# Altium integrated library Wurth_Elektronik_Passive_rev16a.IntLib: 1143 symbols (part 9 of 28)
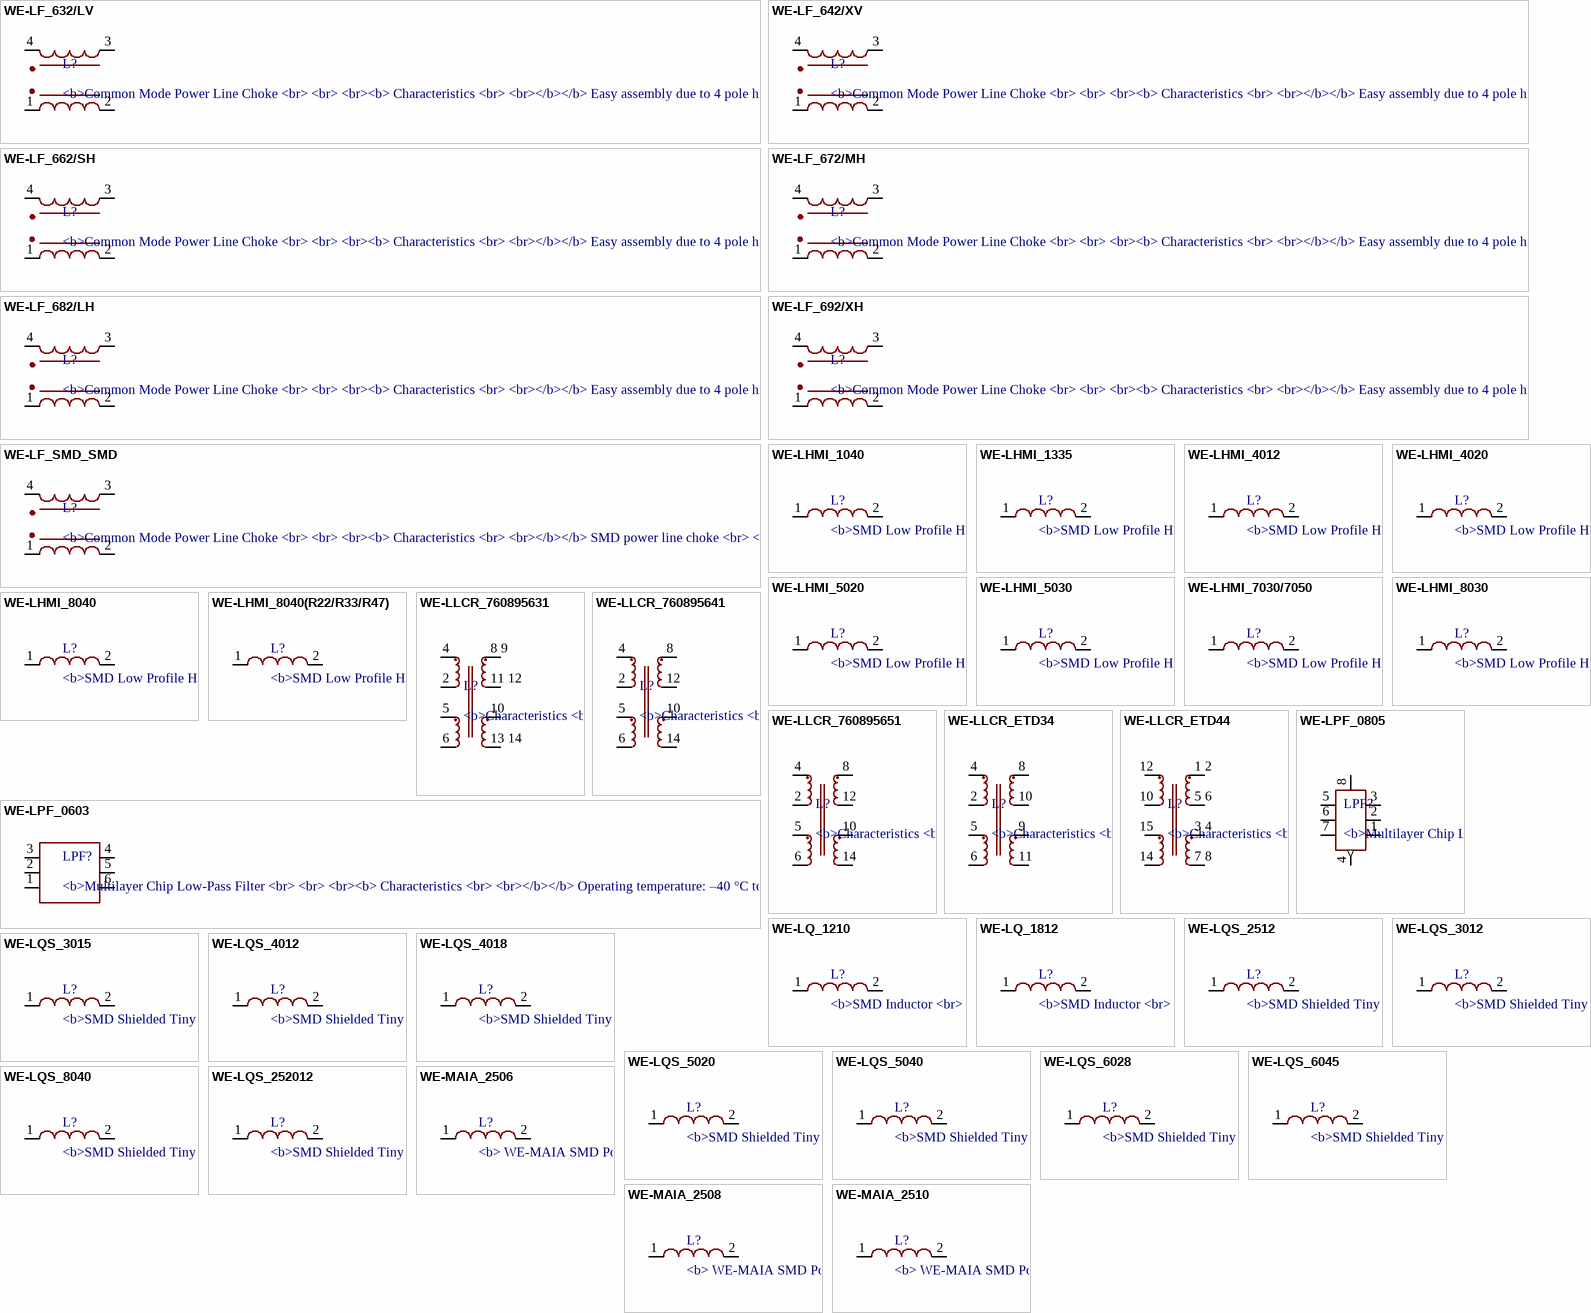
[diagram p66: symbols WE-LF_632/LV to WE-MAIA_2510]

## WE-LQS_6045
designator L?, comment <b>SMD Shielded Tiny Power Inductor / <br> / <br> / <br><b> Characteristics / <br> / <br></b></b> Tiny Power Inductor design / <br> / <br> 1.7 times more current in comparison with unshielded versions / <br> / <br> Robust design & high durability / <br> / <br> Low RDC / <br> / <br> Magnetically shielded with magnetic glue reducing buzz noise in ultra-low levels / <br> / <br> Operating Temperature: –40 °C to +125 °C / <br> / <br> / <br><b> Applications / <br> / <br></b> Integrated DC/DC Converters / <br> / <br> Switching controllers which required high efficiency / <br> / <br> Portable power (Smartphones, digital cameras, Tablets, etc.) / <br> / <br> Embedded laptops and PCs / <br> / <br> Big sizes (5040, 60xx, 8040) used for shock-proof circuits / <br> / <br> / <br> / <br><a href="http://katalog.we-online.de/media/images/eisos/IndLQS_pf2.jpg" title="Enlarge picture"> / <img src="http://katalog.we-online.de/media/thumbs2/eisos/thb_IndLQS_pf2.jpg" width="320"></a><p> / Details see: <a href="http://katalog.we-online.de/en/pbs/WE-LQS">http://katalog.we-online.de/en/pbs/WE-LQS</a><p> / Created  by  Dan Xu 2014-05-21<br> / 2014 (C) Wurth Elektronik
footprint WE-LQS_6045
pins: 1, 2

## WE-LQS_8040
designator L?, comment <b>SMD Shielded Tiny Power Inductor / <br> / <br> / <br><b> Characteristics / <br> / <br></b></b> Tiny Power Inductor design / <br> / <br> 1.7 times more current in comparison with unshielded versions / <br> / <br> Robust design & high durability / <br> / <br> Low RDC / <br> / <br> Magnetically shielded with magnetic glue reducing buzz noise in ultra-low levels / <br> / <br> Operating Temperature: –40 °C to +125 °C / <br> / <br> / <br><b> Applications / <br> / <br></b> Integrated DC/DC Converters / <br> / <br> Switching controllers which required high efficiency / <br> / <br> Portable power (Smartphones, digital cameras, Tablets, etc.) / <br> / <br> Embedded laptops and PCs / <br> / <br> Big sizes (5040, 60xx, 8040) used for shock-proof circuits / <br> / <br> / <br> / <br><a href="http://katalog.we-online.de/media/images/eisos/IndLQS_pf2.jpg" title="Enlarge picture"> / <img src="http://katalog.we-online.de/media/thumbs2/eisos/thb_IndLQS_pf2.jpg" width="320"></a><p> / Details see: <a href="http://katalog.we-online.de/en/pbs/WE-LQS">http://katalog.we-online.de/en/pbs/WE-LQS</a><p> / Created  by  Dan Xu 2014-05-21<br> / 2014 (C) Wurth Elektronik
footprint WE-LQS_8040
pins: 1, 2

## WE-LQS_252012
designator L?, comment <b>SMD Shielded Tiny Power Inductor / <br> / <br> / <br><b> Characteristics / <br> / <br></b></b> Tiny Power Inductor design / <br> / <br> 1.7 times more current in comparison with unshielded versions / <br> / <br> Robust design & high durability / <br> / <br> Low RDC / <br> / <br> Magnetically shielded with magnetic glue reducing buzz noise in ultra-low levels / <br> / <br> Operating Temperature: –40 °C to +125 °C / <br> / <br> / <br><b> Applications / <br> / <br></b> Integrated DC/DC Converters / <br> / <br> Switching controllers which required high efficiency / <br> / <br> Portable power (Smartphones, digital cameras, Tablets, etc.) / <br> / <br> Embedded laptops and PCs / <br> / <br> Big sizes (5040, 60xx, 8040) used for shock-proof circuits / <br> / <br> / <br> / <br><a href="http://katalog.we-online.de/media/images/eisos/IndLQS_pf2.jpg" title="Enlarge picture"> / <img src="http://katalog.we-online.de/media/thumbs2/eisos/thb_IndLQS_pf2.jpg" width="320"></a><p> / Details see: <a href="http://katalog.we-online.de/en/pbs/WE-LQS">http://katalog.we-online.de/en/pbs/WE-LQS</a><p> / Created  by  Dan Xu 2014-05-21<br> / 2014 (C) Wurth Elektronik
footprint WE-LQS_252012
pins: 1, 2

## WE-MAIA_2506
designator L?, comment <b> WE-MAIA SMD Power Inductor / <br> / <br><b>Characteristics</B> / </b><br>Magnetic iron alloy allows high rated currents / <br>Compact design / <br>Magnetically shielded / <br>Hight current capability and handles hight transient current spikes / <br>No acoustic noise and no leakage flux noise / <br>Operating temperature range:-40°C up to 125°C / <br> / <br><b>Applications / </b><br>Power supplies for smartphones, tablet PCs and other mobile devices / <br>DC/DC-converter for high current power supplies / <br>DC/DC-converter for Field Programmable Gate Array (FPGA) / <br>POL-converters / <br>Portable power like PDA, digital camera / <br>Mainboards/graphic cards / <br>Battery powered devices / <br>Wireless communication devices / <br> / <br><a href="http://katalog.we-online.de/media/images/eisos/IndMAIA_pf2.jpg" title="Enlarge picture"> / <img src="http://katalog.we-online.de/media/thumbs2/eisos/thb_IndMAIA_pf2.jpg" width="320"></a><p> / Details see: <a href="http://katalog.we-online.de/en/pbs/WE-MAIA/">http://katalog.we-online.de/en/pbs/WE-MAIA/ / </a><p>Created: 2015-02-04 / <br>2015 (C) Wurth Elektronik
footprint WE-MAIA_2506
pins: 1, 2

## WE-MAIA_2508
designator L?, comment <b> WE-MAIA SMD Power Inductor / <br> / <br><b>Characteristics</B> / </b><br>Magnetic iron alloy allows high rated currents / <br>Compact design / <br>Magnetically shielded / <br>Hight current capability and handles hight transient current spikes / <br>No acoustic noise and no leakage flux noise / <br>Operating temperature range:-40°C up to 125°C / <br> / <br><b>Applications / </b><br>Power supplies for smartphones, tablet PCs and other mobile devices / <br>DC/DC-converter for high current power supplies / <br>DC/DC-converter for Field Programmable Gate Array (FPGA) / <br>POL-converters / <br>Portable power like PDA, digital camera / <br>Mainboards/graphic cards / <br>Battery powered devices / <br>Wireless communication devices / <br> / <br><a href="http://katalog.we-online.de/media/images/eisos/IndMAIA_pf2.jpg" title="Enlarge picture"> / <img src="http://katalog.we-online.de/media/thumbs2/eisos/thb_IndMAIA_pf2.jpg" width="320"></a><p> / Details see: <a href="http://katalog.we-online.de/en/pbs/WE-MAIA/">http://katalog.we-online.de/en/pbs/WE-MAIA/ / </a><p>Created: 2015-02-04 / <br>2015 (C) Wurth Elektronik
footprint WE-MAIA_2508
pins: 1, 2

## WE-MAIA_2510
designator L?, comment <b> WE-MAIA SMD Power Inductor / <br> / <br><b>Characteristics</B> / </b><br>Magnetic iron alloy allows high rated currents / <br>Compact design / <br>Magnetically shielded / <br>Hight current capability and handles hight transient current spikes / <br>No acoustic noise and no leakage flux noise / <br>Operating temperature range:-40°C up to 125°C / <br> / <br><b>Applications / </b><br>Power supplies for smartphones, tablet PCs and other mobile devices / <br>DC/DC-converter for high current power supplies / <br>DC/DC-converter for Field Programmable Gate Array (FPGA) / <br>POL-converters / <br>Portable power like PDA, digital camera / <br>Mainboards/graphic cards / <br>Battery powered devices / <br>Wireless communication devices / <br> / <br><a href="http://katalog.we-online.de/media/images/eisos/IndMAIA_pf2.jpg" title="Enlarge picture"> / <img src="http://katalog.we-online.de/media/thumbs2/eisos/thb_IndMAIA_pf2.jpg" width="320"></a><p> / Details see: <a href="http://katalog.we-online.de/en/pbs/WE-MAIA/">http://katalog.we-online.de/en/pbs/WE-MAIA/ / </a><p>Created: 2015-02-04 / <br>2015 (C) Wurth Elektronik
footprint WE-MAIA_2510
pins: 1, 2

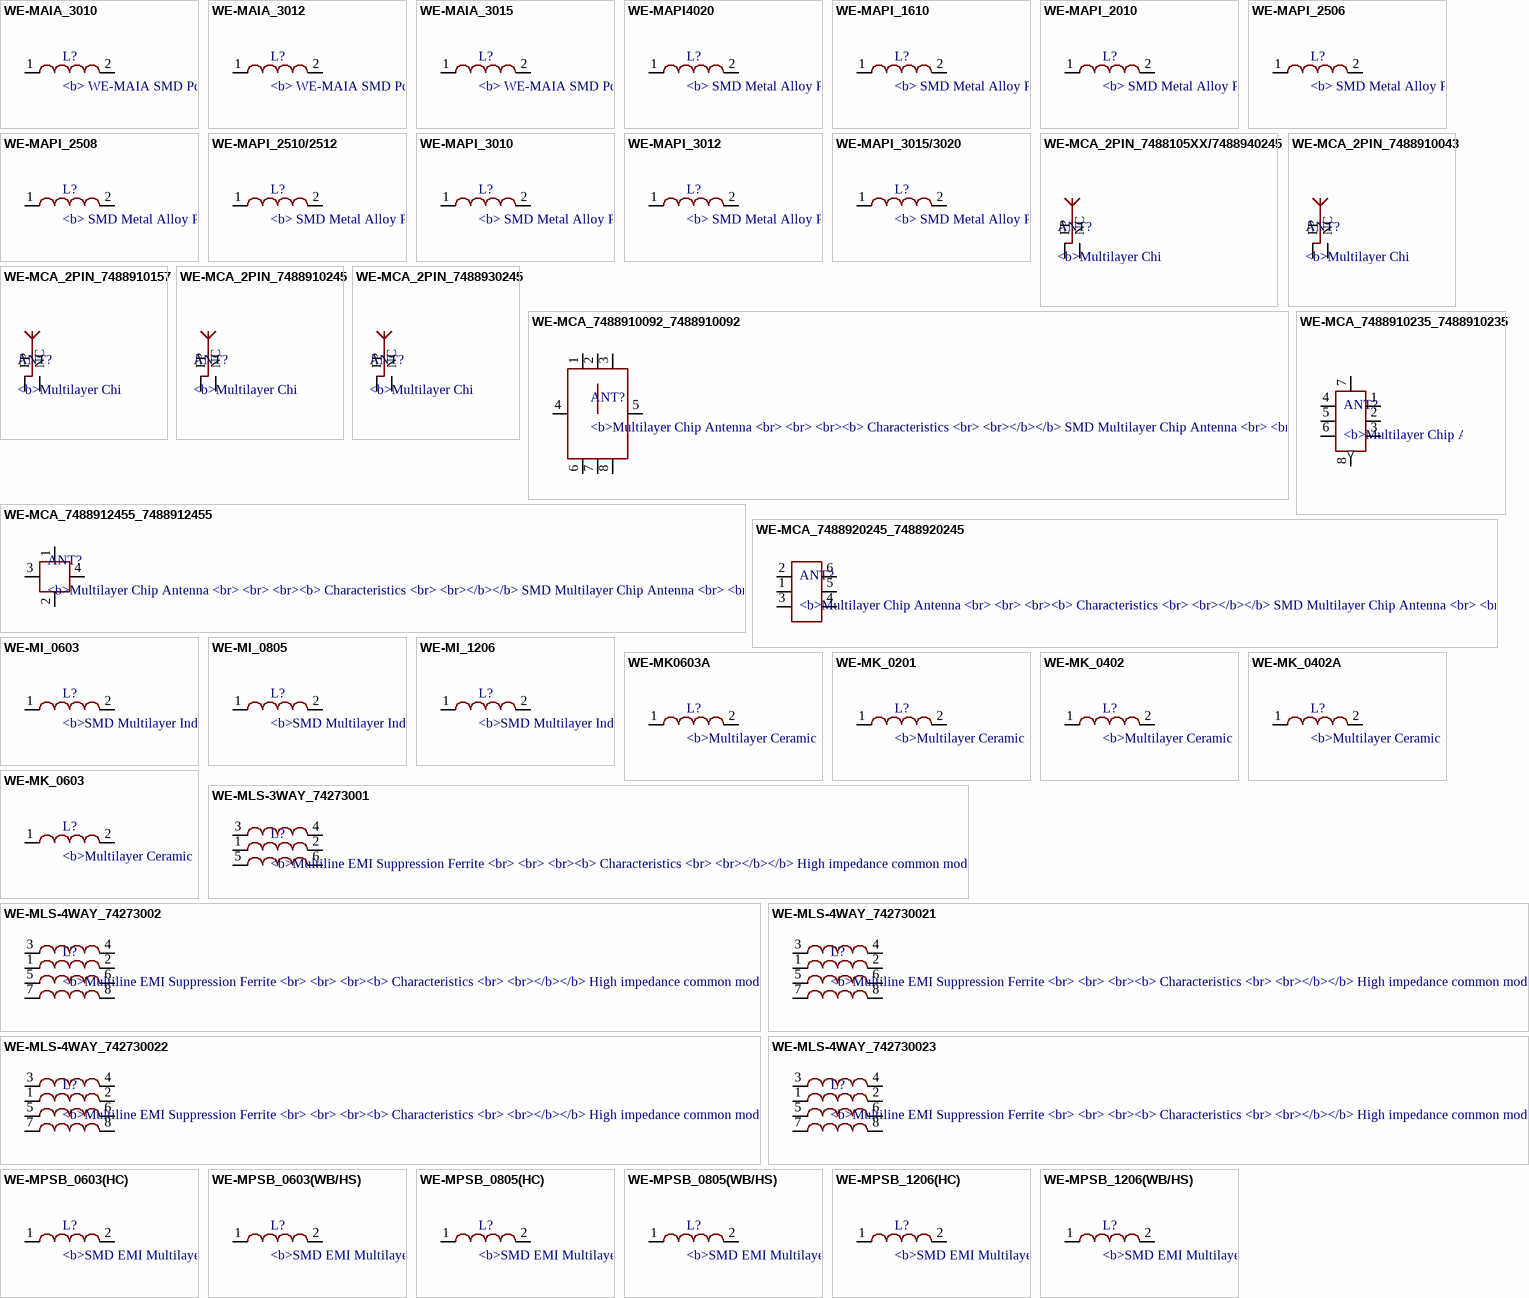
[diagram p23: symbols WE-MAIA_3010 to WE-MPSB_1206(WB/HS)]

## WE-MAIA_3010
designator L?, comment <b> WE-MAIA SMD Power Inductor / <br> / <br><b>Characteristics</B> / </b><br>Magnetic iron alloy allows high rated currents / <br>Compact design / <br>Magnetically shielded / <br>Hight current capability and handles hight transient current spikes / <br>No acoustic noise and no leakage flux noise / <br>Operating temperature range:-40°C up to 125°C / <br> / <br><b>Applications / </b><br>Power supplies for smartphones, tablet PCs and other mobile devices / <br>DC/DC-converter for high current power supplies / <br>DC/DC-converter for Field Programmable Gate Array (FPGA) / <br>POL-converters / <br>Portable power like PDA, digital camera / <br>Mainboards/graphic cards / <br>Battery powered devices / <br>Wireless communication devices / <br> / <br><a href="http://katalog.we-online.de/media/images/eisos/IndMAIA_pf2.jpg" title="Enlarge picture"> / <img src="http://katalog.we-online.de/media/thumbs2/eisos/thb_IndMAIA_pf2.jpg" width="320"></a><p> / Details see: <a href="http://katalog.we-online.de/en/pbs/WE-MAIA/">http://katalog.we-online.de/en/pbs/WE-MAIA/ / </a><p>Created: 2015-02-04 / <br>2015 (C) Wurth Elektronik
footprint WE-MAIA_3010
pins: 1, 2

## WE-MAIA_3012
designator L?, comment <b> WE-MAIA SMD Power Inductor / <br> / <br><b>Characteristics</B> / </b><br>Magnetic iron alloy allows high rated currents / <br>Compact design / <br>Magnetically shielded / <br>Hight current capability and handles hight transient current spikes / <br>No acoustic noise and no leakage flux noise / <br>Operating temperature range:-40°C up to 125°C / <br> / <br><b>Applications / </b><br>Power supplies for smartphones, tablet PCs and other mobile devices / <br>DC/DC-converter for high current power supplies / <br>DC/DC-converter for Field Programmable Gate Array (FPGA) / <br>POL-converters / <br>Portable power like PDA, digital camera / <br>Mainboards/graphic cards / <br>Battery powered devices / <br>Wireless communication devices / <br> / <br><a href="http://katalog.we-online.de/media/images/eisos/IndMAIA_pf2.jpg" title="Enlarge picture"> / <img src="http://katalog.we-online.de/media/thumbs2/eisos/thb_IndMAIA_pf2.jpg" width="320"></a><p> / Details see: <a href="http://katalog.we-online.de/en/pbs/WE-MAIA/">http://katalog.we-online.de/en/pbs/WE-MAIA/ / </a><p>Created: 2015-02-04 / <br>2015 (C) Wurth Elektronik
footprint WE-MAIA_3012
pins: 1, 2

## WE-MAIA_3015
designator L?, comment <b> WE-MAIA SMD Power Inductor / <br> / <br><b>Characteristics</B> / </b><br>Magnetic iron alloy allows high rated currents / <br>Compact design / <br>Magnetically shielded / <br>Hight current capability and handles hight transient current spikes / <br>No acoustic noise and no leakage flux noise / <br>Operating temperature range:-40°C up to 125°C / <br> / <br><b>Applications / </b><br>Power supplies for smartphones, tablet PCs and other mobile devices / <br>DC/DC-converter for high current power supplies / <br>DC/DC-converter for Field Programmable Gate Array (FPGA) / <br>POL-converters / <br>Portable power like PDA, digital camera / <br>Mainboards/graphic cards / <br>Battery powered devices / <br>Wireless communication devices / <br> / <br><a href="http://katalog.we-online.de/media/images/eisos/IndMAIA_pf2.jpg" title="Enlarge picture"> / <img src="http://katalog.we-online.de/media/thumbs2/eisos/thb_IndMAIA_pf2.jpg" width="320"></a><p> / Details see: <a href="http://katalog.we-online.de/en/pbs/WE-MAIA/">http://katalog.we-online.de/en/pbs/WE-MAIA/ / </a><p>Created: 2015-02-04 / <br>2015 (C) Wurth Elektronik
footprint WE-MAIA_3015
pins: 1, 2

## WE-MAPI4020
designator L?, comment <b> SMD Metal Alloy Power Inductor / <br> / <br> / <br><b> Characteristics / <br> / <br></b></b> Magnetic iron alloy allows high rated currents / <br> / <br> Compact design / <br> / <br> Magnetically shielded / <br> / <br> High current capability and handles high transient current spikes / <br> / <br> Low acoustic noise and low leakage flux noise / <br> / <br> Operating temperature: –40 °C to 125 °C / <br> / <br> / <br><b> Applications / <br> / <br></b> DC/DC-converter for high current power supplies / <br> / <br> DC/DC-converter for Field Programmable Gate Array (FPGA) / <br> / <br> POL-converters / <br> / <br> Portable power like PDA, digital camera / <br> / <br> Mainboards/graphic cards / <br> / <br> Battery powered devices / <br> / <br> Wireless communication devices / <br> / <br> Power supplies for smartphones, tablet PCs and other mobile devices / <br> / <br> / <br><a href="http://katalog.we-online.de/media/images/eisos/IndMAPI_pf2.jpg" title="Enlarge picture"> / <img src="http://katalog.we-online.de/media/images/eisos/IndMAPI_pf2.jpg" width="320"></a><p> / Details see: <a href="http://katalog.we-online.de/en/pbs/WE-MAPI?">http://katalog.we-online.de/en/pbs/WE-MAPI?</a><p> / Updated  by  Dan Xu 2014-07-08<br> / 2014 (C) Wurth Elektronik
footprint WE-MAPI_4020
pins: 1, 2

## WE-MAPI_1610
designator L?, comment <b> SMD Metal Alloy Power Inductor / <br> / <br> / <br><b> Characteristics / <br> / <br></b></b> Magnetic iron alloy allows high rated currents / <br> / <br> Compact design / <br> / <br> Magnetically shielded / <br> / <br> High current capability and handles high transient current spikes / <br> / <br> Low acoustic noise and low leakage flux noise / <br> / <br> Operating temperature: –40 °C to 125 °C / <br> / <br> / <br><b> Applications / <br> / <br></b> DC/DC-converter for high current power supplies / <br> / <br> DC/DC-converter for Field Programmable Gate Array (FPGA) / <br> / <br> POL-converters / <br> / <br> Portable power like PDA, digital camera / <br> / <br> Mainboards/graphic cards / <br> / <br> Battery powered devices / <br> / <br> Wireless communication devices / <br> / <br> Power supplies for smartphones, tablet PCs and other mobile devices / <br> / <br> / <br><a href="http://katalog.we-online.de/media/images/eisos/IndMAPI_pf2.jpg" title="Enlarge picture"> / <img src="http://katalog.we-online.de/media/images/eisos/IndMAPI_pf2.jpg" width="320"></a><p> / Details see: <a href="http://katalog.we-online.de/en/pbs/WE-MAPI?">http://katalog.we-online.de/en/pbs/WE-MAPI?</a><p> / Updated  by  Dan Xu 2014-07-08<br> / 2014 (C) Wurth Elektronik
footprint WE-MAPI_1610
pins: 1, 2

## WE-MAPI_2010
designator L?, comment <b> SMD Metal Alloy Power Inductor / <br> / <br> / <br><b> Characteristics / <br> / <br></b></b> Magnetic iron alloy allows high rated currents / <br> / <br> Compact design / <br> / <br> Magnetically shielded / <br> / <br> High current capability and handles high transient current spikes / <br> / <br> Low acoustic noise and low leakage flux noise / <br> / <br> Operating temperature: –40 °C to 125 °C / <br> / <br> / <br><b> Applications / <br> / <br></b> DC/DC-converter for high current power supplies / <br> / <br> DC/DC-converter for Field Programmable Gate Array (FPGA) / <br> / <br> POL-converters / <br> / <br> Portable power like PDA, digital camera / <br> / <br> Mainboards/graphic cards / <br> / <br> Battery powered devices / <br> / <br> Wireless communication devices / <br> / <br> Power supplies for smartphones, tablet PCs and other mobile devices / <br> / <br> / <br><a href="http://katalog.we-online.de/media/images/eisos/IndMAPI_pf2.jpg" title="Enlarge picture"> / <img src="http://katalog.we-online.de/media/images/eisos/IndMAPI_pf2.jpg" width="320"></a><p> / Details see: <a href="http://katalog.we-online.de/en/pbs/WE-MAPI?">http://katalog.we-online.de/en/pbs/WE-MAPI?</a><p> / Updated  by  Dan Xu 2014-07-08<br> / 2014 (C) Wurth Elektronik
footprint WE-MAPI_2010
pins: 1, 2

## WE-MAPI_2506
designator L?, comment <b> SMD Metal Alloy Power Inductor / <br> / <br> / <br><b> Characteristics / <br> / <br></b></b> Magnetic iron alloy allows high rated currents / <br> / <br> Compact design / <br> / <br> Magnetically shielded / <br> / <br> High current capability and handles high transient current spikes / <br> / <br> Low acoustic noise and low leakage flux noise / <br> / <br> Operating temperature: –40 °C to 125 °C / <br> / <br> / <br><b> Applications / <br> / <br></b> DC/DC-converter for high current power supplies / <br> / <br> DC/DC-converter for Field Programmable Gate Array (FPGA) / <br> / <br> POL-converters / <br> / <br> Portable power like PDA, digital camera / <br> / <br> Mainboards/graphic cards / <br> / <br> Battery powered devices / <br> / <br> Wireless communication devices / <br> / <br> Power supplies for smartphones, tablet PCs and other mobile devices / <br> / <br> / <br><a href="http://katalog.we-online.de/media/images/eisos/IndMAPI_pf2.jpg" title="Enlarge picture"> / <img src="http://katalog.we-online.de/media/images/eisos/IndMAPI_pf2.jpg" width="320"></a><p> / Details see: <a href="http://katalog.we-online.de/en/pbs/WE-MAPI?">http://katalog.we-online.de/en/pbs/WE-MAPI?</a><p> / Updated  by  Dan Xu 2014-07-08<br> / 2014 (C) Wurth Elektronik
footprint WE-MAPI_2506
pins: 1, 2

## WE-MAPI_2508
designator L?, comment <b> SMD Metal Alloy Power Inductor / <br> / <br> / <br><b> Characteristics / <br> / <br></b></b> Magnetic iron alloy allows high rated currents / <br> / <br> Compact design / <br> / <br> Magnetically shielded / <br> / <br> High current capability and handles high transient current spikes / <br> / <br> Low acoustic noise and low leakage flux noise / <br> / <br> Operating temperature: –40 °C to 125 °C / <br> / <br> / <br><b> Applications / <br> / <br></b> DC/DC-converter for high current power supplies / <br> / <br> DC/DC-converter for Field Programmable Gate Array (FPGA) / <br> / <br> POL-converters / <br> / <br> Portable power like PDA, digital camera / <br> / <br> Mainboards/graphic cards / <br> / <br> Battery powered devices / <br> / <br> Wireless communication devices / <br> / <br> Power supplies for smartphones, tablet PCs and other mobile devices / <br> / <br> / <br><a href="http://katalog.we-online.de/media/images/eisos/IndMAPI_pf2.jpg" title="Enlarge picture"> / <img src="http://katalog.we-online.de/media/images/eisos/IndMAPI_pf2.jpg" width="320"></a><p> / Details see: <a href="http://katalog.we-online.de/en/pbs/WE-MAPI?">http://katalog.we-online.de/en/pbs/WE-MAPI?</a><p> / Updated  by  Dan Xu 2014-07-08<br> / 2014 (C) Wurth Elektronik
footprint WE-MAPI_2508
pins: 1, 2

## WE-MAPI_2510/2512
designator L?, comment <b> SMD Metal Alloy Power Inductor / <br> / <br> / <br><b> Characteristics / <br> / <br></b></b> Magnetic iron alloy allows high rated currents / <br> / <br> Compact design / <br> / <br> Magnetically shielded / <br> / <br> High current capability and handles high transient current spikes / <br> / <br> Low acoustic noise and low leakage flux noise / <br> / <br> Operating temperature: –40 °C to 125 °C / <br> / <br> / <br><b> Applications / <br> / <br></b> DC/DC-converter for high current power supplies / <br> / <br> DC/DC-converter for Field Programmable Gate Array (FPGA) / <br> / <br> POL-converters / <br> / <br> Portable power like PDA, digital camera / <br> / <br> Mainboards/graphic cards / <br> / <br> Battery powered devices / <br> / <br> Wireless communication devices / <br> / <br> Power supplies for smartphones, tablet PCs and other mobile devices / <br> / <br> / <br><a href="http://katalog.we-online.de/media/images/eisos/IndMAPI_pf2.jpg" title="Enlarge picture"> / <img src="http://katalog.we-online.de/media/images/eisos/IndMAPI_pf2.jpg" width="320"></a><p> / Details see: <a href="http://katalog.we-online.de/en/pbs/WE-MAPI?">http://katalog.we-online.de/en/pbs/WE-MAPI?</a><p> / Updated  by  Dan Xu 2014-07-08<br> / 2014 (C) Wurth Elektronik
footprint WE-MAPI_2510/2512
pins: 1, 2

## WE-MAPI_3010
designator L?, comment <b> SMD Metal Alloy Power Inductor / <br> / <br> / <br><b> Characteristics / <br> / <br></b></b> Magnetic iron alloy allows high rated currents / <br> / <br> Compact design / <br> / <br> Magnetically shielded / <br> / <br> High current capability and handles high transient current spikes / <br> / <br> Low acoustic noise and low leakage flux noise / <br> / <br> Operating temperature: –40 °C to 125 °C / <br> / <br> / <br><b> Applications / <br> / <br></b> DC/DC-converter for high current power supplies / <br> / <br> DC/DC-converter for Field Programmable Gate Array (FPGA) / <br> / <br> POL-converters / <br> / <br> Portable power like PDA, digital camera / <br> / <br> Mainboards/graphic cards / <br> / <br> Battery powered devices / <br> / <br> Wireless communication devices / <br> / <br> Power supplies for smartphones, tablet PCs and other mobile devices / <br> / <br> / <br><a href="http://katalog.we-online.de/media/images/eisos/IndMAPI_pf2.jpg" title="Enlarge picture"> / <img src="http://katalog.we-online.de/media/images/eisos/IndMAPI_pf2.jpg" width="320"></a><p> / Details see: <a href="http://katalog.we-online.de/en/pbs/WE-MAPI?">http://katalog.we-online.de/en/pbs/WE-MAPI?</a><p> / Updated  by  Dan Xu 2014-07-08<br> / 2014 (C) Wurth Elektronik
footprint WE-MAPI_3010
pins: 1, 2

## WE-MAPI_3012
designator L?, comment <b> SMD Metal Alloy Power Inductor / <br> / <br> / <br><b> Characteristics / <br> / <br></b></b> Magnetic iron alloy allows high rated currents / <br> / <br> Compact design / <br> / <br> Magnetically shielded / <br> / <br> High current capability and handles high transient current spikes / <br> / <br> Low acoustic noise and low leakage flux noise / <br> / <br> Operating temperature: –40 °C to 125 °C / <br> / <br> / <br><b> Applications / <br> / <br></b> DC/DC-converter for high current power supplies / <br> / <br> DC/DC-converter for Field Programmable Gate Array (FPGA) / <br> / <br> POL-converters / <br> / <br> Portable power like PDA, digital camera / <br> / <br> Mainboards/graphic cards / <br> / <br> Battery powered devices / <br> / <br> Wireless communication devices / <br> / <br> Power supplies for smartphones, tablet PCs and other mobile devices / <br> / <br> / <br><a href="http://katalog.we-online.de/media/images/eisos/IndMAPI_pf2.jpg" title="Enlarge picture"> / <img src="http://katalog.we-online.de/media/images/eisos/IndMAPI_pf2.jpg" width="320"></a><p> / Details see: <a href="http://katalog.we-online.de/en/pbs/WE-MAPI?">http://katalog.we-online.de/en/pbs/WE-MAPI?</a><p> / Updated  by  Dan Xu 2014-07-08<br> / 2014 (C) Wurth Elektronik
footprint WE-MAPI_3012
pins: 1, 2

## WE-MAPI_3015/3020
designator L?, comment <b> SMD Metal Alloy Power Inductor / <br> / <br> / <br><b> Characteristics / <br> / <br></b></b> Magnetic iron alloy allows high rated currents / <br> / <br> Compact design / <br> / <br> Magnetically shielded / <br> / <br> High current capability and handles high transient current spikes / <br> / <br> Low acoustic noise and low leakage flux noise / <br> / <br> Operating temperature: –40 °C to 125 °C / <br> / <br> / <br><b> Applications / <br> / <br></b> DC/DC-converter for high current power supplies / <br> / <br> DC/DC-converter for Field Programmable Gate Array (FPGA) / <br> / <br> POL-converters / <br> / <br> Portable power like PDA, digital camera / <br> / <br> Mainboards/graphic cards / <br> / <br> Battery powered devices / <br> / <br> Wireless communication devices / <br> / <br> Power supplies for smartphones, tablet PCs and other mobile devices / <br> / <br> / <br><a href="http://katalog.we-online.de/media/images/eisos/IndMAPI_pf2.jpg" title="Enlarge picture"> / <img src="http://katalog.we-online.de/media/images/eisos/IndMAPI_pf2.jpg" width="320"></a><p> / Details see: <a href="http://katalog.we-online.de/en/pbs/WE-MAPI?">http://katalog.we-online.de/en/pbs/WE-MAPI?</a><p> / Updated  by  Dan Xu 2014-07-08<br> / 2014 (C) Wurth Elektronik
footprint WE-MAPI_3015/3020
pins: 1, 2

## WE-MCA_2PIN_7488105XX/7488940245
designator ANT?, comment <b>Multilayer Chip Antenna / <br> / <br> / <br><b> Characteristics / <br> / <br></b></b> SMD Multilayer Chip Antenna / <br> / <br> Extremely low profile / <br> / <br> Very light component / <br> / <br> Power capacity: 5 W max. / <br> / <br> Omni-directional / <br> / <br> Operating temperature: –40 °C to +85 °C / <br> / <br> High gain / <br> / <br> / <br><b> Applications / <br> / <br></b> applications / <br> / <br> WLAN / <br> / <br> Home RF (868 MHz) / <br> / <br> Bluetooth applications / <br> / <br> GSM 900 / <br> / <br> ISM 868/2400 / <br> / <br> / <br> / <br><a href="<br><a href="http://katalog.we-online.de/media/images/eisos/RfMCA_pf2.jpg" title="Enlarge picture"> / <img src="http://katalog.we-online.de/media/images/eisos/RfMCA_pf2.jpg" width="320"></a><p> / Details see: <a href="http://katalog.we-online.de/en/pbs/WE-MCA?">http://katalog.we-online.de/en/pbs/WE-MCA?</a><p> / Updated  by  Dan Xu 2014-07-08<br> / 2014 (C) Wurth Elektronik
footprint WE-MCA_7488105XX/7488940245
pins: 1 FP, 2 NC

## WE-MCA_2PIN_7488910043
designator ANT?, comment <b>Multilayer Chip Antenna / <br> / <br> / <br><b> Characteristics / <br> / <br></b></b> SMD Multilayer Chip Antenna / <br> / <br> Extremely low profile / <br> / <br> Very light component / <br> / <br> Power capacity: 5 W max. / <br> / <br> Omni-directional / <br> / <br> Operating temperature: –40 °C to +85 °C / <br> / <br> High gain / <br> / <br> / <br><b> Applications / <br> / <br></b> applications / <br> / <br> WLAN / <br> / <br> Home RF (868 MHz) / <br> / <br> Bluetooth applications / <br> / <br> GSM 900 / <br> / <br> ISM 868/2400 / <br> / <br> / <br> / <br><a href="<br><a href="http://katalog.we-online.de/media/images/eisos/RfMCA_pf2.jpg" title="Enlarge picture"> / <img src="http://katalog.we-online.de/media/images/eisos/RfMCA_pf2.jpg" width="320"></a><p> / Details see: <a href="http://katalog.we-online.de/en/pbs/WE-MCA?">http://katalog.we-online.de/en/pbs/WE-MCA?</a><p> / Updated  by  Dan Xu 2014-07-08<br> / 2014 (C) Wurth Elektronik
footprint WE-MCA_7488910043
pins: 1 FP, 2 NC

## WE-MCA_2PIN_7488910157
designator ANT?, comment <b>Multilayer Chip Antenna / <br> / <br> / <br><b> Characteristics / <br> / <br></b></b> SMD Multilayer Chip Antenna / <br> / <br> Extremely low profile / <br> / <br> Very light component / <br> / <br> Power capacity: 5 W max. / <br> / <br> Omni-directional / <br> / <br> Operating temperature: –40 °C to +85 °C / <br> / <br> High gain / <br> / <br> / <br><b> Applications / <br> / <br></b> applications / <br> / <br> WLAN / <br> / <br> Home RF (868 MHz) / <br> / <br> Bluetooth applications / <br> / <br> GSM 900 / <br> / <br> ISM 868/2400 / <br> / <br> / <br> / <br><a href="<br><a href="http://katalog.we-online.de/media/images/eisos/RfMCA_pf2.jpg" title="Enlarge picture"> / <img src="http://katalog.we-online.de/media/images/eisos/RfMCA_pf2.jpg" width="320"></a><p> / Details see: <a href="http://katalog.we-online.de/en/pbs/WE-MCA?">http://katalog.we-online.de/en/pbs/WE-MCA?</a><p> / Updated  by  Dan Xu 2014-07-08<br> / 2014 (C) Wurth Elektronik
footprint WE-MCA_7488910157
pins: 1 FP, 2 NC

## WE-MCA_2PIN_7488910245
designator ANT?, comment <b>Multilayer Chip Antenna / <br> / <br> / <br><b> Characteristics / <br> / <br></b></b> SMD Multilayer Chip Antenna / <br> / <br> Extremely low profile / <br> / <br> Very light component / <br> / <br> Power capacity: 5 W max. / <br> / <br> Omni-directional / <br> / <br> Operating temperature: –40 °C to +85 °C / <br> / <br> High gain / <br> / <br> / <br><b> Applications / <br> / <br></b> applications / <br> / <br> WLAN / <br> / <br> Home RF (868 MHz) / <br> / <br> Bluetooth applications / <br> / <br> GSM 900 / <br> / <br> ISM 868/2400 / <br> / <br> / <br> / <br><a href="<br><a href="http://katalog.we-online.de/media/images/eisos/RfMCA_pf2.jpg" title="Enlarge picture"> / <img src="http://katalog.we-online.de/media/images/eisos/RfMCA_pf2.jpg" width="320"></a><p> / Details see: <a href="http://katalog.we-online.de/en/pbs/WE-MCA?">http://katalog.we-online.de/en/pbs/WE-MCA?</a><p> / Updated  by  Dan Xu 2014-07-08<br> / 2014 (C) Wurth Elektronik
footprint WE-MCA_7488910245
pins: 1 NC, 2 FP

## WE-MCA_2PIN_7488930245
designator ANT?, comment <b>Multilayer Chip Antenna / <br> / <br> / <br><b> Characteristics / <br> / <br></b></b> SMD Multilayer Chip Antenna / <br> / <br> Extremely low profile / <br> / <br> Very light component / <br> / <br> Power capacity: 5 W max. / <br> / <br> Omni-directional / <br> / <br> Operating temperature: –40 °C to +85 °C / <br> / <br> High gain / <br> / <br> / <br><b> Applications / <br> / <br></b> applications / <br> / <br> WLAN / <br> / <br> Home RF (868 MHz) / <br> / <br> Bluetooth applications / <br> / <br> GSM 900 / <br> / <br> ISM 868/2400 / <br> / <br> / <br> / <br><a href="<br><a href="http://katalog.we-online.de/media/images/eisos/RfMCA_pf2.jpg" title="Enlarge picture"> / <img src="http://katalog.we-online.de/media/images/eisos/RfMCA_pf2.jpg" width="320"></a><p> / Details see: <a href="http://katalog.we-online.de/en/pbs/WE-MCA?">http://katalog.we-online.de/en/pbs/WE-MCA?</a><p> / Updated  by  Dan Xu 2014-07-08<br> / 2014 (C) Wurth Elektronik
footprint WE-MCA_7488930245
pins: 1 FP, 2 NC

## WE-MCA_7488910092_7488910092
designator ANT?, comment <b>Multilayer Chip Antenna / <br> / <br> / <br><b> Characteristics / <br> / <br></b></b> SMD Multilayer Chip Antenna / <br> / <br> Extremely low profile / <br> / <br> Very light component / <br> / <br> Power capacity: 5 W max. / <br> / <br> Omni-directional / <br> / <br> Operating temperature: –40 °C to +85 °C / <br> / <br> High gain / <br> / <br> / <br><b> Applications / <br> / <br></b> applications / <br> / <br> WLAN / <br> / <br> Home RF (868 MHz) / <br> / <br> Bluetooth applications / <br> / <br> GSM 900 / <br> / <br> ISM 868/2400 / <br> / <br> / <br> / <br><a href="<br><a href="http://katalog.we-online.de/media/images/eisos/RfMCA_pf2.jpg" title="Enlarge picture"> / <img src="http://katalog.we-online.de/media/images/eisos/RfMCA_pf2.jpg" width="320"></a><p> / Details see: <a href="http://katalog.we-online.de/en/pbs/WE-MCA?">http://katalog.we-online.de/en/pbs/WE-MCA?</a><p> / Updated  by  Dan Xu 2014-07-08<br> / 2014 (C) Wurth Elektronik
footprint WE-MCA_7488910092
pins: 1 NC, 2 FD, 3 NC, 4 NC, 5 NC, 6 NC, 7 NC, 8 NC

## WE-MCA_7488910235_7488910235
designator ANT?, comment <b>Multilayer Chip Antenna / <br> / <br> / <br><b> Characteristics / <br> / <br></b></b> SMD Multilayer Chip Antenna / <br> / <br> Extremely low profile / <br> / <br> Very light component / <br> / <br> Power capacity: 5 W max. / <br> / <br> Omni-directional / <br> / <br> Operating temperature: –40 °C to +85 °C / <br> / <br> High gain / <br> / <br> / <br><b> Applications / <br> / <br></b> applications / <br> / <br> WLAN / <br> / <br> Home RF (868 MHz) / <br> / <br> Bluetooth applications / <br> / <br> GSM 900 / <br> / <br> ISM 868/2400 / <br> / <br> / <br> / <br><a href="<br><a href="http://katalog.we-online.de/media/images/eisos/RfMCA_pf2.jpg" title="Enlarge picture"> / <img src="http://katalog.we-online.de/media/images/eisos/RfMCA_pf2.jpg" width="320"></a><p> / Details see: <a href="http://katalog.we-online.de/en/pbs/WE-MCA?">http://katalog.we-online.de/en/pbs/WE-MCA?</a><p> / Updated  by  Dan Xu 2014-07-08<br> / 2014 (C) Wurth Elektronik
footprint WE-MCA_7488910235
pins: 1 GND (power), 2 NC, 3 GND (power), 4 GND (power), 5 NC, 6 GND (power), 7 IN, 8 OUT (out)

## WE-MCA_7488912455_7488912455
designator ANT?, comment <b>Multilayer Chip Antenna / <br> / <br> / <br><b> Characteristics / <br> / <br></b></b> SMD Multilayer Chip Antenna / <br> / <br> Extremely low profile / <br> / <br> Very light component / <br> / <br> Power capacity: 5 W max. / <br> / <br> Omni-directional / <br> / <br> Operating temperature: –40 °C to +85 °C / <br> / <br> High gain / <br> / <br> / <br><b> Applications / <br> / <br></b> applications / <br> / <br> WLAN / <br> / <br> Home RF (868 MHz) / <br> / <br> Bluetooth applications / <br> / <br> GSM 900 / <br> / <br> ISM 868/2400 / <br> / <br> / <br> / <br><a href="<br><a href="http://katalog.we-online.de/media/images/eisos/RfMCA_pf2.jpg" title="Enlarge picture"> / <img src="http://katalog.we-online.de/media/images/eisos/RfMCA_pf2.jpg" width="320"></a><p> / Details see: <a href="http://katalog.we-online.de/en/pbs/WE-MCA?">http://katalog.we-online.de/en/pbs/WE-MCA?</a><p> / Updated  by  Dan Xu 2014-07-08<br> / 2014 (C) Wurth Elektronik
footprint WE-MCA_7488912455
pins: 1 NC, 2 NC, 3 FD_LB, 4 FD_HB

## WE-MCA_7488920245_7488920245
designator ANT?, comment <b>Multilayer Chip Antenna / <br> / <br> / <br><b> Characteristics / <br> / <br></b></b> SMD Multilayer Chip Antenna / <br> / <br> Extremely low profile / <br> / <br> Very light component / <br> / <br> Power capacity: 5 W max. / <br> / <br> Omni-directional / <br> / <br> Operating temperature: –40 °C to +85 °C / <br> / <br> High gain / <br> / <br> / <br><b> Applications / <br> / <br></b> applications / <br> / <br> WLAN / <br> / <br> Home RF (868 MHz) / <br> / <br> Bluetooth applications / <br> / <br> GSM 900 / <br> / <br> ISM 868/2400 / <br> / <br> / <br> / <br><a href="<br><a href="http://katalog.we-online.de/media/images/eisos/RfMCA_pf2.jpg" title="Enlarge picture"> / <img src="http://katalog.we-online.de/media/images/eisos/RfMCA_pf2.jpg" width="320"></a><p> / Details see: <a href="http://katalog.we-online.de/en/pbs/WE-MCA?">http://katalog.we-online.de/en/pbs/WE-MCA?</a><p> / Updated  by  Dan Xu 2014-07-08<br> / 2014 (C) Wurth Elektronik
footprint WE-MCA_7488920245
pins: 1 FD, 2 GND (power), 3 GND (power), 4 NC, 5 NC, 6 NC

## WE-MI_0603
designator L?, comment <b>SMD Multilayer Inductor / <br> / <br> / <br><b> Characteristics / <br> / <br></b></b> Smallest inductor possible for less space needed on the printed circuit board and therefore perfect suitable for high density mounting / <br> / <br> No cross coupling because of closed magnetic circuits / <br> / <br> No crosstalk / <br> / <br> Operating temperature: –55 °C to +125 °C / <br> / <br> / <br><b> Applications / <br> / <br></b> Filter circuits / <br> / <br> Oscillators / <br> / <br> Adjustment networks / <br> / <br> Discretely built T- or π-Filter / <br> / <br> / <br> / <br><a href="<br><a href="http://katalog.we-online.de/media/images/eisos/IndMI_pf2.jpg" title="Enlarge picture"> / <img src="http://katalog.we-online.de/media/images/eisos/IndMI_pf2.jpg" width="320"></a><p> / Details see: <a href="http://katalog.we-online.de/en/pbs/WE-MI?">http://katalog.we-online.de/en/pbs/WE-MI?</a><p> / Updated  by  Dan Xu 2014-07-08<br> / 2014 (C) Wurth Elektronik
footprint WE-MI_0603
pins: 1, 2

## WE-MI_0805
designator L?, comment <b>SMD Multilayer Inductor / <br> / <br> / <br><b> Characteristics / <br> / <br></b></b> Smallest inductor possible for less space needed on the printed circuit board and therefore perfect suitable for high density mounting / <br> / <br> No cross coupling because of closed magnetic circuits / <br> / <br> No crosstalk / <br> / <br> Operating temperature: –55 °C to +125 °C / <br> / <br> / <br><b> Applications / <br> / <br></b> Filter circuits / <br> / <br> Oscillators / <br> / <br> Adjustment networks / <br> / <br> Discretely built T- or π-Filter / <br> / <br> / <br> / <br><a href="<br><a href="http://katalog.we-online.de/media/images/eisos/IndMI_pf2.jpg" title="Enlarge picture"> / <img src="http://katalog.we-online.de/media/images/eisos/IndMI_pf2.jpg" width="320"></a><p> / Details see: <a href="http://katalog.we-online.de/en/pbs/WE-MI?">http://katalog.we-online.de/en/pbs/WE-MI?</a><p> / Updated  by  Dan Xu 2014-07-08<br> / 2014 (C) Wurth Elektronik
footprint WE-MI_0805
pins: 1, 2

## WE-MI_1206
designator L?, comment <b>SMD Multilayer Inductor / <br> / <br> / <br><b> Characteristics / <br> / <br></b></b> Smallest inductor possible for less space needed on the printed circuit board and therefore perfect suitable for high density mounting / <br> / <br> No cross coupling because of closed magnetic circuits / <br> / <br> No crosstalk / <br> / <br> Operating temperature: –55 °C to +125 °C / <br> / <br> / <br><b> Applications / <br> / <br></b> Filter circuits / <br> / <br> Oscillators / <br> / <br> Adjustment networks / <br> / <br> Discretely built T- or π-Filter / <br> / <br> / <br> / <br><a href="<br><a href="http://katalog.we-online.de/media/images/eisos/IndMI_pf2.jpg" title="Enlarge picture"> / <img src="http://katalog.we-online.de/media/images/eisos/IndMI_pf2.jpg" width="320"></a><p> / Details see: <a href="http://katalog.we-online.de/en/pbs/WE-MI?">http://katalog.we-online.de/en/pbs/WE-MI?</a><p> / Updated  by  Dan Xu 2014-07-08<br> / 2014 (C) Wurth Elektronik
footprint WE-MI_1206
pins: 1, 2

## WE-MK0603A
designator L?, comment <b>Multilayer Ceramic SMD Inductor / <br> / <br> / <br><b> Characteristics / <br> / <br></b></b> Windings printed on ceramic substrate / <br> / <br> Extremely high self resonant frequency > 17 GHz / <br> / <br> Inductive tolerances of 5%; ± 0.3 nH / <br> / <br> Operating temperature: –40°C to +120°C / <br> / <br> Inductance is stable over temperature / <br> / <br> / <br><b> Applications / <br> / <br></b> High frequency circuits / <br> / <br> Bluetooth / <br> / <br> Wireless LAN / <br> / <br> Filter circuits / <br> / <br> Oscillators / <br> / <br> Pagers / <br> / <br> Laptops / <br> / <br> PCMCIA-cards / <br> / <br> / <br> / <br><a href="<br><a href="http://katalog.we-online.de/media/images/eisos/RfMK_pf2.jpg" title="Enlarge picture"> / <img src="http://katalog.we-online.de/media/images/eisos/RfMK_pf2.jpg" width="320"></a><p> / Details see: <a href="http://katalog.we-online.de/en/pbs/WE-MK?">http://katalog.we-online.de/en/pbs/WE-MK?</a><p> / Updated  by  Dan Xu 2014-07-08<br> / 2014 (C) Wurth Elektronik
footprint WE-MK_0603
pins: 1, 2

## WE-MK_0201
designator L?, comment <b>Multilayer Ceramic SMD Inductor / <br> / <br> / <br><b> Characteristics / <br> / <br></b></b> Windings printed on ceramic substrate / <br> / <br> Extremely high self resonant frequency > 17 GHz / <br> / <br> Inductive tolerances of 5%; ± 0.3 nH / <br> / <br> Operating temperature: –40°C to +120°C / <br> / <br> Inductance is stable over temperature / <br> / <br> / <br><b> Applications / <br> / <br></b> High frequency circuits / <br> / <br> Bluetooth / <br> / <br> Wireless LAN / <br> / <br> Filter circuits / <br> / <br> Oscillators / <br> / <br> Pagers / <br> / <br> Laptops / <br> / <br> PCMCIA-cards / <br> / <br> / <br> / <br><a href="<br><a href="http://katalog.we-online.de/media/images/eisos/RfMK_pf2.jpg" title="Enlarge picture"> / <img src="http://katalog.we-online.de/media/images/eisos/RfMK_pf2.jpg" width="320"></a><p> / Details see: <a href="http://katalog.we-online.de/en/pbs/WE-MK?">http://katalog.we-online.de/en/pbs/WE-MK?</a><p> / Updated  by  Dan Xu 2014-07-08<br> / 2014 (C) Wurth Elektronik
footprint WE-MK_0201
pins: 1, 2

## WE-MK_0402
designator L?, comment <b>Multilayer Ceramic SMD Inductor / <br> / <br> / <br><b> Characteristics / <br> / <br></b></b> Windings printed on ceramic substrate / <br> / <br> Extremely high self resonant frequency > 17 GHz / <br> / <br> Inductive tolerances of 5%; ± 0.3 nH / <br> / <br> Operating temperature: –40°C to +120°C / <br> / <br> Inductance is stable over temperature / <br> / <br> / <br><b> Applications / <br> / <br></b> High frequency circuits / <br> / <br> Bluetooth / <br> / <br> Wireless LAN / <br> / <br> Filter circuits / <br> / <br> Oscillators / <br> / <br> Pagers / <br> / <br> Laptops / <br> / <br> PCMCIA-cards / <br> / <br> / <br> / <br><a href="<br><a href="http://katalog.we-online.de/media/images/eisos/RfMK_pf2.jpg" title="Enlarge picture"> / <img src="http://katalog.we-online.de/media/images/eisos/RfMK_pf2.jpg" width="320"></a><p> / Details see: <a href="http://katalog.we-online.de/en/pbs/WE-MK?">http://katalog.we-online.de/en/pbs/WE-MK?</a><p> / Updated  by  Dan Xu 2014-07-08<br> / 2014 (C) Wurth Elektronik
footprint WE-MK_0402
pins: 1, 2

## WE-MK_0402A
designator L?, comment <b>Multilayer Ceramic SMD Inductor / <br> / <br> / <br><b> Characteristics / <br> / <br></b></b> Windings printed on ceramic substrate / <br> / <br> Extremely high self resonant frequency > 17 GHz / <br> / <br> Inductive tolerances of 5%; ± 0.3 nH / <br> / <br> Operating temperature: –40°C to +120°C / <br> / <br> Inductance is stable over temperature / <br> / <br> / <br><b> Applications / <br> / <br></b> High frequency circuits / <br> / <br> Bluetooth / <br> / <br> Wireless LAN / <br> / <br> Filter circuits / <br> / <br> Oscillators / <br> / <br> Pagers / <br> / <br> Laptops / <br> / <br> PCMCIA-cards / <br> / <br> / <br> / <br><a href="<br><a href="http://katalog.we-online.de/media/images/eisos/RfMK_pf2.jpg" title="Enlarge picture"> / <img src="http://katalog.we-online.de/media/images/eisos/RfMK_pf2.jpg" width="320"></a><p> / Details see: <a href="http://katalog.we-online.de/en/pbs/WE-MK?">http://katalog.we-online.de/en/pbs/WE-MK?</a><p> / Updated  by  Dan Xu 2014-07-08<br> / 2014 (C) Wurth Elektronik
footprint WE-MK_0402
pins: 1, 2

## WE-MK_0603
designator L?, comment <b>Multilayer Ceramic SMD Inductor / <br> / <br> / <br><b> Characteristics / <br> / <br></b></b> Windings printed on ceramic substrate / <br> / <br> Extremely high self resonant frequency > 17 GHz / <br> / <br> Inductive tolerances of 5%; ± 0.3 nH / <br> / <br> Operating temperature: –40°C to +120°C / <br> / <br> Inductance is stable over temperature / <br> / <br> / <br><b> Applications / <br> / <br></b> High frequency circuits / <br> / <br> Bluetooth / <br> / <br> Wireless LAN / <br> / <br> Filter circuits / <br> / <br> Oscillators / <br> / <br> Pagers / <br> / <br> Laptops / <br> / <br> PCMCIA-cards / <br> / <br> / <br> / <br><a href="<br><a href="http://katalog.we-online.de/media/images/eisos/RfMK_pf2.jpg" title="Enlarge picture"> / <img src="http://katalog.we-online.de/media/images/eisos/RfMK_pf2.jpg" width="320"></a><p> / Details see: <a href="http://katalog.we-online.de/en/pbs/WE-MK?">http://katalog.we-online.de/en/pbs/WE-MK?</a><p> / Updated  by  Dan Xu 2014-07-08<br> / 2014 (C) Wurth Elektronik
footprint WE-MK_0603
pins: 1, 2

## WE-MLS-3WAY_74273001
designator L?, comment <b>Multiline EMI Suppression Ferrite / <br> / <br> / <br><b> Characteristics / <br> / <br></b></b> High impedance common mode inductor with 2x2 windings made by PCB line connection / <br> / <br> High rated current with typ. 4 A / <br> / <br> Broadband filtering because of the NiZn-ferrite core / <br> / <br> RF common mode inductor for 2, 3 or 4 lines in one component / <br> / <br> Compact size / <br> / <br> Operating temperature: –25 ºC to +125 ºC / <br> / <br> Custom designs on request / <br> / <br> With the appropriate layout (see below) the impedance (i.e. 4 windings) respectively the current (parallel circuit) could be increased / <br> / <br> / <br><b> Applications / <br> / <br></b> Perfect suitable for absorption of common or differential mode interferences in the field of EMC / <br> / <br> High-current DC output filters of power supplies e.g. battery chargers, industrial power supplies / <br> / <br> With one turn the component performes like a 3 or 4 times common mode choke for the signal / <br> / <br> 4-line sensor application / <br><a href="<br><a href="http://katalog.we-online.de/media/images/eisos/FeMLS_pf2.jpg" title="Enlarge picture"> / <img src="http://katalog.we-online.de/media/images/eisos/FeMLS_pf2.jpg" width="320"></a><p> / Details see: <a href="http://katalog.we-online.de/en/pbs/WE-MLS?">http://katalog.we-online.de/en/pbs/WE-MLS?</a><p> / Updated  by  Dan Xu 2014-07-08<br> / 2014 (C) Wurth Elektronik
footprint WE-3WAY_74273001
pins: 1 6, 2 3, 3 1, 4 2, 5, 6 4

## WE-MLS-4WAY_74273002
designator L?, comment <b>Multiline EMI Suppression Ferrite / <br> / <br> / <br><b> Characteristics / <br> / <br></b></b> High impedance common mode inductor with 2x2 windings made by PCB line connection / <br> / <br> High rated current with typ. 4 A / <br> / <br> Broadband filtering because of the NiZn-ferrite core / <br> / <br> RF common mode inductor for 2, 3 or 4 lines in one component / <br> / <br> Compact size / <br> / <br> Operating temperature: –25 ºC to +125 ºC / <br> / <br> Custom designs on request / <br> / <br> With the appropriate layout (see below) the impedance (i.e. 4 windings) respectively the current (parallel circuit) could be increased / <br> / <br> / <br><b> Applications / <br> / <br></b> Perfect suitable for absorption of common or differential mode interferences in the field of EMC / <br> / <br> High-current DC output filters of power supplies e.g. battery chargers, industrial power supplies / <br> / <br> With one turn the component performes like a 3 or 4 times common mode choke for the signal / <br> / <br> 4-line sensor application / <br><a href="<br><a href="http://katalog.we-online.de/media/images/eisos/FeMLS_pf2.jpg" title="Enlarge picture"> / <img src="http://katalog.we-online.de/media/images/eisos/FeMLS_pf2.jpg" width="320"></a><p> / Details see: <a href="http://katalog.we-online.de/en/pbs/WE-MLS?">http://katalog.we-online.de/en/pbs/WE-MLS?</a><p> / Updated  by  Dan Xu 2014-07-08<br> / 2014 (C) Wurth Elektronik
footprint WE-4WAY_74273002
pins: 1, 2, 3, 4, 5, 6, 7, 8

## WE-MLS-4WAY_742730021
designator L?, comment <b>Multiline EMI Suppression Ferrite / <br> / <br> / <br><b> Characteristics / <br> / <br></b></b> High impedance common mode inductor with 2x2 windings made by PCB line connection / <br> / <br> High rated current with typ. 4 A / <br> / <br> Broadband filtering because of the NiZn-ferrite core / <br> / <br> RF common mode inductor for 2, 3 or 4 lines in one component / <br> / <br> Compact size / <br> / <br> Operating temperature: –25 ºC to +125 ºC / <br> / <br> Custom designs on request / <br> / <br> With the appropriate layout (see below) the impedance (i.e. 4 windings) respectively the current (parallel circuit) could be increased / <br> / <br> / <br><b> Applications / <br> / <br></b> Perfect suitable for absorption of common or differential mode interferences in the field of EMC / <br> / <br> High-current DC output filters of power supplies e.g. battery chargers, industrial power supplies / <br> / <br> With one turn the component performes like a 3 or 4 times common mode choke for the signal / <br> / <br> 4-line sensor application / <br><a href="<br><a href="http://katalog.we-online.de/media/images/eisos/FeMLS_pf2.jpg" title="Enlarge picture"> / <img src="http://katalog.we-online.de/media/images/eisos/FeMLS_pf2.jpg" width="320"></a><p> / Details see: <a href="http://katalog.we-online.de/en/pbs/WE-MLS?">http://katalog.we-online.de/en/pbs/WE-MLS?</a><p> / Updated  by  Dan Xu 2014-07-08<br> / 2014 (C) Wurth Elektronik
footprint WE-4WAY_742730021
pins: 1, 2, 3, 4, 5, 6, 7, 8

## WE-MLS-4WAY_742730022
designator L?, comment <b>Multiline EMI Suppression Ferrite / <br> / <br> / <br><b> Characteristics / <br> / <br></b></b> High impedance common mode inductor with 2x2 windings made by PCB line connection / <br> / <br> High rated current with typ. 4 A / <br> / <br> Broadband filtering because of the NiZn-ferrite core / <br> / <br> RF common mode inductor for 2, 3 or 4 lines in one component / <br> / <br> Compact size / <br> / <br> Operating temperature: –25 ºC to +125 ºC / <br> / <br> Custom designs on request / <br> / <br> With the appropriate layout (see below) the impedance (i.e. 4 windings) respectively the current (parallel circuit) could be increased / <br> / <br> / <br><b> Applications / <br> / <br></b> Perfect suitable for absorption of common or differential mode interferences in the field of EMC / <br> / <br> High-current DC output filters of power supplies e.g. battery chargers, industrial power supplies / <br> / <br> With one turn the component performes like a 3 or 4 times common mode choke for the signal / <br> / <br> 4-line sensor application / <br><a href="<br><a href="http://katalog.we-online.de/media/images/eisos/FeMLS_pf2.jpg" title="Enlarge picture"> / <img src="http://katalog.we-online.de/media/images/eisos/FeMLS_pf2.jpg" width="320"></a><p> / Details see: <a href="http://katalog.we-online.de/en/pbs/WE-MLS?">http://katalog.we-online.de/en/pbs/WE-MLS?</a><p> / Updated  by  Dan Xu 2014-07-08<br> / 2014 (C) Wurth Elektronik
footprint WE-4WAY_742730022
pins: 1, 2, 3, 4, 5, 6, 7, 8

## WE-MLS-4WAY_742730023
designator L?, comment <b>Multiline EMI Suppression Ferrite / <br> / <br> / <br><b> Characteristics / <br> / <br></b></b> High impedance common mode inductor with 2x2 windings made by PCB line connection / <br> / <br> High rated current with typ. 4 A / <br> / <br> Broadband filtering because of the NiZn-ferrite core / <br> / <br> RF common mode inductor for 2, 3 or 4 lines in one component / <br> / <br> Compact size / <br> / <br> Operating temperature: –25 ºC to +125 ºC / <br> / <br> Custom designs on request / <br> / <br> With the appropriate layout (see below) the impedance (i.e. 4 windings) respectively the current (parallel circuit) could be increased / <br> / <br> / <br><b> Applications / <br> / <br></b> Perfect suitable for absorption of common or differential mode interferences in the field of EMC / <br> / <br> High-current DC output filters of power supplies e.g. battery chargers, industrial power supplies / <br> / <br> With one turn the component performes like a 3 or 4 times common mode choke for the signal / <br> / <br> 4-line sensor application / <br><a href="<br><a href="http://katalog.we-online.de/media/images/eisos/FeMLS_pf2.jpg" title="Enlarge picture"> / <img src="http://katalog.we-online.de/media/images/eisos/FeMLS_pf2.jpg" width="320"></a><p> / Details see: <a href="http://katalog.we-online.de/en/pbs/WE-MLS?">http://katalog.we-online.de/en/pbs/WE-MLS?</a><p> / Updated  by  Dan Xu 2014-07-08<br> / 2014 (C) Wurth Elektronik
footprint WE-4WAY_742730023
pins: 1, 2, 3, 4, 5, 6, 7, 8

## WE-MPSB_0603(HC)
designator L?, comment <b>SMD EMI Multilayer Power Suppression Bead / <br> / <br> / <br><b> Characteristics / <br> / <br></b></b> High rated current up to 10 A / <br> / <br> Operating temperature: –55 ºC to +125 ºC / <br> / <br> Very low RDC / <br> / <br> / <br><b> Applications / <br> / <br></b> 77 EMI suppression of DC/DC converters and DC power supply / <br> / <br> / <br><b>Variant abbreviation</b><br> / <br> / WB means WIDE BAND<br> / HS means HIGH SPEED<br> / HC means HIGH CURRENT<br> / <br> / <br><a href="<br><a href="http://katalog.we-online.de/media/images/eisos/FeMPSB_pf2.jpg" title="Enlarge picture"> / <img src="http://katalog.we-online.de/media/images/eisos/FeMPSB_pf2.jpg" width="320"></a><p> / Details see: <a href="http://katalog.we-online.de/en/pbs/WE-MPSB?">http://katalog.we-online.de/en/pbs/WE-MPSB?</a><p> / Updated  by  Dan Xu 2014-07-08<br> / 2014 (C) Wurth Elektronik
footprint WE-MPSB_0603(W=2.6)
pins: 1, 2